# Altium schematic symbol library FPC.SchLib: 103 symbols
Pins are listed as number, name and electrical type; pins without a type are passive.

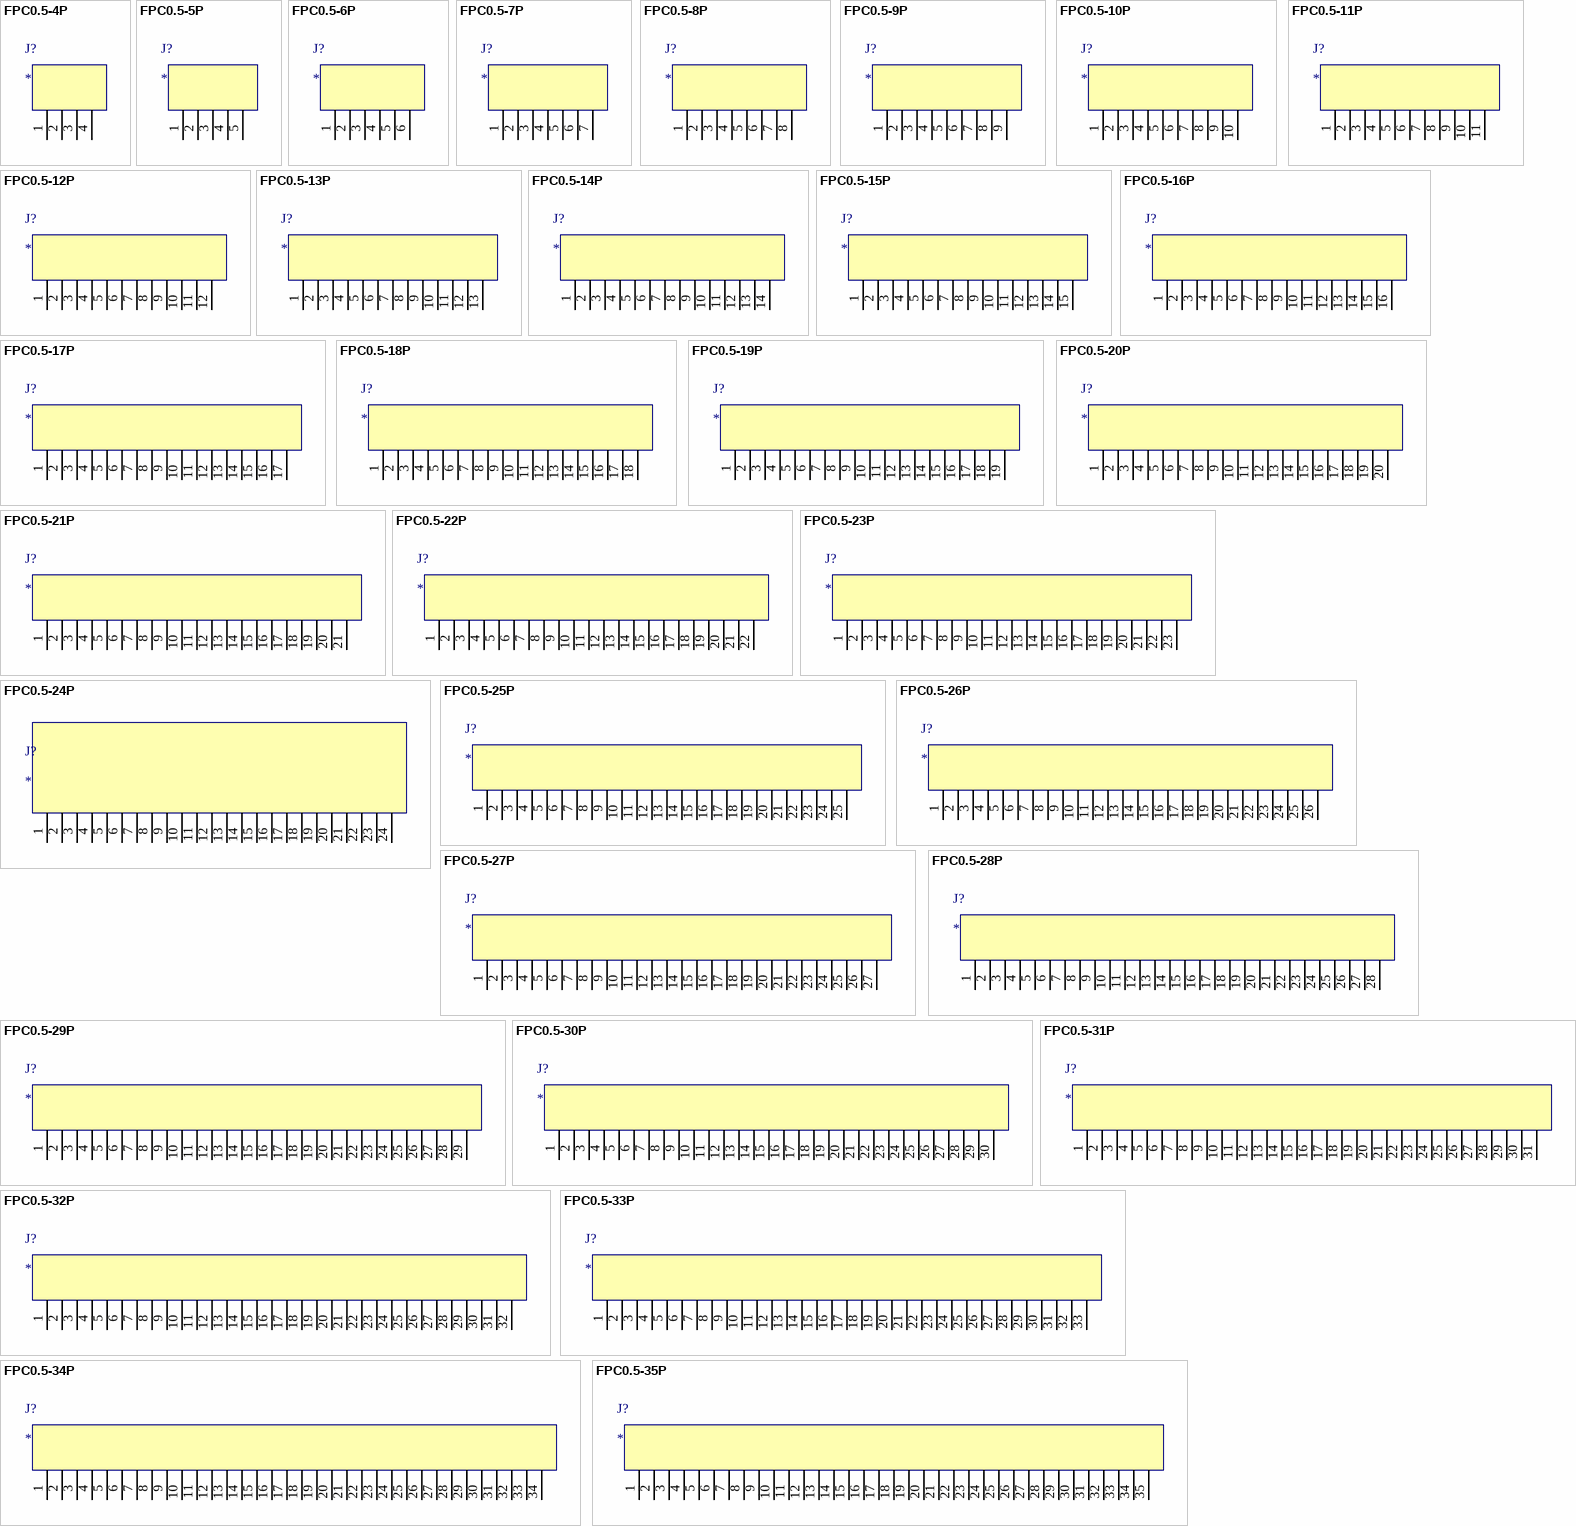
[diagram p0: symbols FPC0.5-4P to FPC0.5-35P]

## FPC0.5-4P
designator J?
贴片
footprint FPC0.5-4P
pins: 1, 2, 3, 4

## FPC0.5-5P
designator J?
贴片
footprint FPC0.5-5P
pins: 1, 2, 3, 4, 5

## FPC0.5-6P
designator J?
贴片
footprint FPC0.5-6P
pins: 1, 2, 3, 4, 5, 6

## FPC0.5-7P
designator J?
贴片
footprint FPC0.5-7P
pins: 1, 2, 3, 4, 5, 6, 7

## FPC0.5-8P
designator J?
贴片
footprint FPC0.5-8P
pins: 1, 2, 3, 4, 5, 6, 7, 8

## FPC0.5-9P
designator J?
贴片
footprint FPC0.5-9P
pins: 1, 2, 3, 4, 5, 6, 7, 8, 9

## FPC0.5-10P
designator J?
贴片
footprint FPC0.5-10P
pins: 1, 2, 3, 4, 5, 6, 7, 8, 9, 10

## FPC0.5-11P
designator J?
贴片
footprint FPC0.5-11p
pins: 1, 2, 3, 4, 5, 6, 7, 8, 9, 10, 11

## FPC0.5-12P
designator J?
贴片
footprint FPC0.5-12P
pins: 1, 2, 3, 4, 5, 6, 7, 8, 9, 10, 11, 12

## FPC0.5-13P
designator J?
贴片
footprint FPC0.5-13P
pins: 1, 2, 3, 4, 5, 6, 7, 8, 9, 10, 11, 12, 13

## FPC0.5-14P
designator J?
贴片
footprint FPC0.5-14P
pins: 1, 2, 3, 4, 5, 6, 7, 8, 9, 10, 11, 12, 13, 14

## FPC0.5-15P
designator J?
贴片
footprint FPC0.5-15P
pins: 1, 2, 3, 4, 5, 6, 7, 8, 9, 10, 11, 12, 13, 14, 15

## FPC0.5-16P
designator J?
贴片
footprint FPC0.5-16P
pins: 1, 2, 3, 4, 5, 6, 7, 8, 9, 10, 11, 12, 13, 14, 15, 16

## FPC0.5-17P
designator J?
贴片
footprint FPC0.5-17P
pins: 1, 2, 3, 4, 5, 6, 7, 8, 9, 10, 11, 12, 13, 14, 15, 16, 17

## FPC0.5-18P
designator J?
贴片
footprint FPC0.5-18P
pins: 1, 2, 3, 4, 5, 6, 7, 8, 9, 10, 11, 12, 13, 14, 15, 16, 17, 18

## FPC0.5-19P
designator J?
贴片
footprint FPC0.5-19P
pins: 1, 2, 3, 4, 5, 6, 7, 8, 9, 10, 11, 12, 13, 14, 15, 16, 17, 18, 19

## FPC0.5-20P
designator J?
贴片
footprint FPC0.5-20P
pins: 1, 2, 3, 4, 5, 6, 7, 8, 9, 10, 11, 12, 13, 14, 15, 16, 17, 18, 19, 20

## FPC0.5-21P
designator J?
贴片
footprint FPC0.5-21P
pins: 1, 2, 3, 4, 5, 6, 7, 8, 9, 10, 11, 12, 13, 14, 15, 16, 17, 18, 19, 20, 21

## FPC0.5-22P
designator J?
贴片
footprint FPC0.5-22P
pins: 1, 2, 3, 4, 5, 6, 7, 8, 9, 10, 11, 12, 13, 14, 15, 16, 17, 18, 19, 20, 21, 22

## FPC0.5-23P
designator J?
贴片
footprint FPC0.5-23P
pins: 1, 2, 3, 4, 5, 6, 7, 8, 9, 10, 11, 12, 13, 14, 15, 16, 17, 18, 19, 20, 21, 22, 23

## FPC0.5-24P
designator J?
贴片
footprint FPC0.5-24P
pins: 1, 2, 3, 4, 5, 6, 7, 8, 9, 10, 11, 12, 13, 14, 15, 16, 17, 18, 19, 20, 21, 22, 23, 24

## FPC0.5-25P
designator J?
贴片
footprint FPC0.5-25P
pins: 1, 2, 3, 4, 5, 6, 7, 8, 9, 10, 11, 12, 13, 14, 15, 16, 17, 18, 19, 20, 21, 22, 23, 24, 25

## FPC0.5-26P
designator J?
贴片
footprint FPC0.5-26P
pins: 1, 2, 3, 4, 5, 6, 7, 8, 9, 10, 11, 12, 13, 14, 15, 16, 17, 18, 19, 20, 21, 22, 23, 24, 25, 26

## FPC0.5-27P
designator J?
贴片
footprint FPC0.5-27P
pins: 1, 2, 3, 4, 5, 6, 7, 8, 9, 10, 11, 12, 13, 14, 15, 16, 17, 18, 19, 20, 21, 22, 23, 24, 25, 26, 27

## FPC0.5-28P
designator J?
贴片
footprint FPC0.5-28P
pins: 1, 2, 3, 4, 5, 6, 7, 8, 9, 10, 11, 12, 13, 14, 15, 16, 17, 18, 19, 20, 21, 22, 23, 24, 25, 26, 27, 28

## FPC0.5-29P
designator J?
贴片
footprint FPC0.5-29P
pins: 1, 2, 3, 4, 5, 6, 7, 8, 9, 10, 11, 12, 13, 14, 15, 16, 17, 18, 19, 20, 21, 22, 23, 24, 25, 26, 27, 28, 29

## FPC0.5-30P
designator J?
贴片
footprint FPC0.5-30P
pins: 1, 2, 3, 4, 5, 6, 7, 8, 9, 10, 11, 12, 13, 14, 15, 16, 17, 18, 19, 20, 21, 22, 23, 24, 25, 26, 27, 28, 29, 30

## FPC0.5-31P
designator J?
贴片
footprint FPC0.5-31P
pins: 1, 2, 3, 4, 5, 6, 7, 8, 9, 10, 11, 12, 13, 14, 15, 16, 17, 18, 19, 20, 21, 22, 23, 24, 25, 26, 27, 28, 29, 30, 31

## FPC0.5-32P
designator J?
贴片
footprint FPC0.5-32P
pins: 1, 2, 3, 4, 5, 6, 7, 8, 9, 10, 11, 12, 13, 14, 15, 16, 17, 18, 19, 20, 21, 22, 23, 24, 25, 26, 27, 28, 29, 30, 31, 32

## FPC0.5-33P
designator J?
贴片
footprint FPC0.5-33P
pins: 1, 2, 3, 4, 5, 6, 7, 8, 9, 10, 11, 12, 13, 14, 15, 16, 17, 18, 19, 20, 21, 22, 23, 24, 25, 26, 27, 28, 29, 30, 31, 32, 33

## FPC0.5-34P
designator J?
贴片
footprint FPC0.5-34P
pins: 1, 2, 3, 4, 5, 6, 7, 8, 9, 10, 11, 12, 13, 14, 15, 16, 17, 18, 19, 20, 21, 22, 23, 24, 25, 26, 27, 28, 29, 30, 31, 32, 33, 34

## FPC0.5-35P
designator J?
贴片
footprint FPC0.5-35P
pins: 1, 2, 3, 4, 5, 6, 7, 8, 9, 10, 11, 12, 13, 14, 15, 16, 17, 18, 19, 20, 21, 22, 23, 24, 25, 26, 27, 28, 29, 30, 31, 32, 33, 34, 35

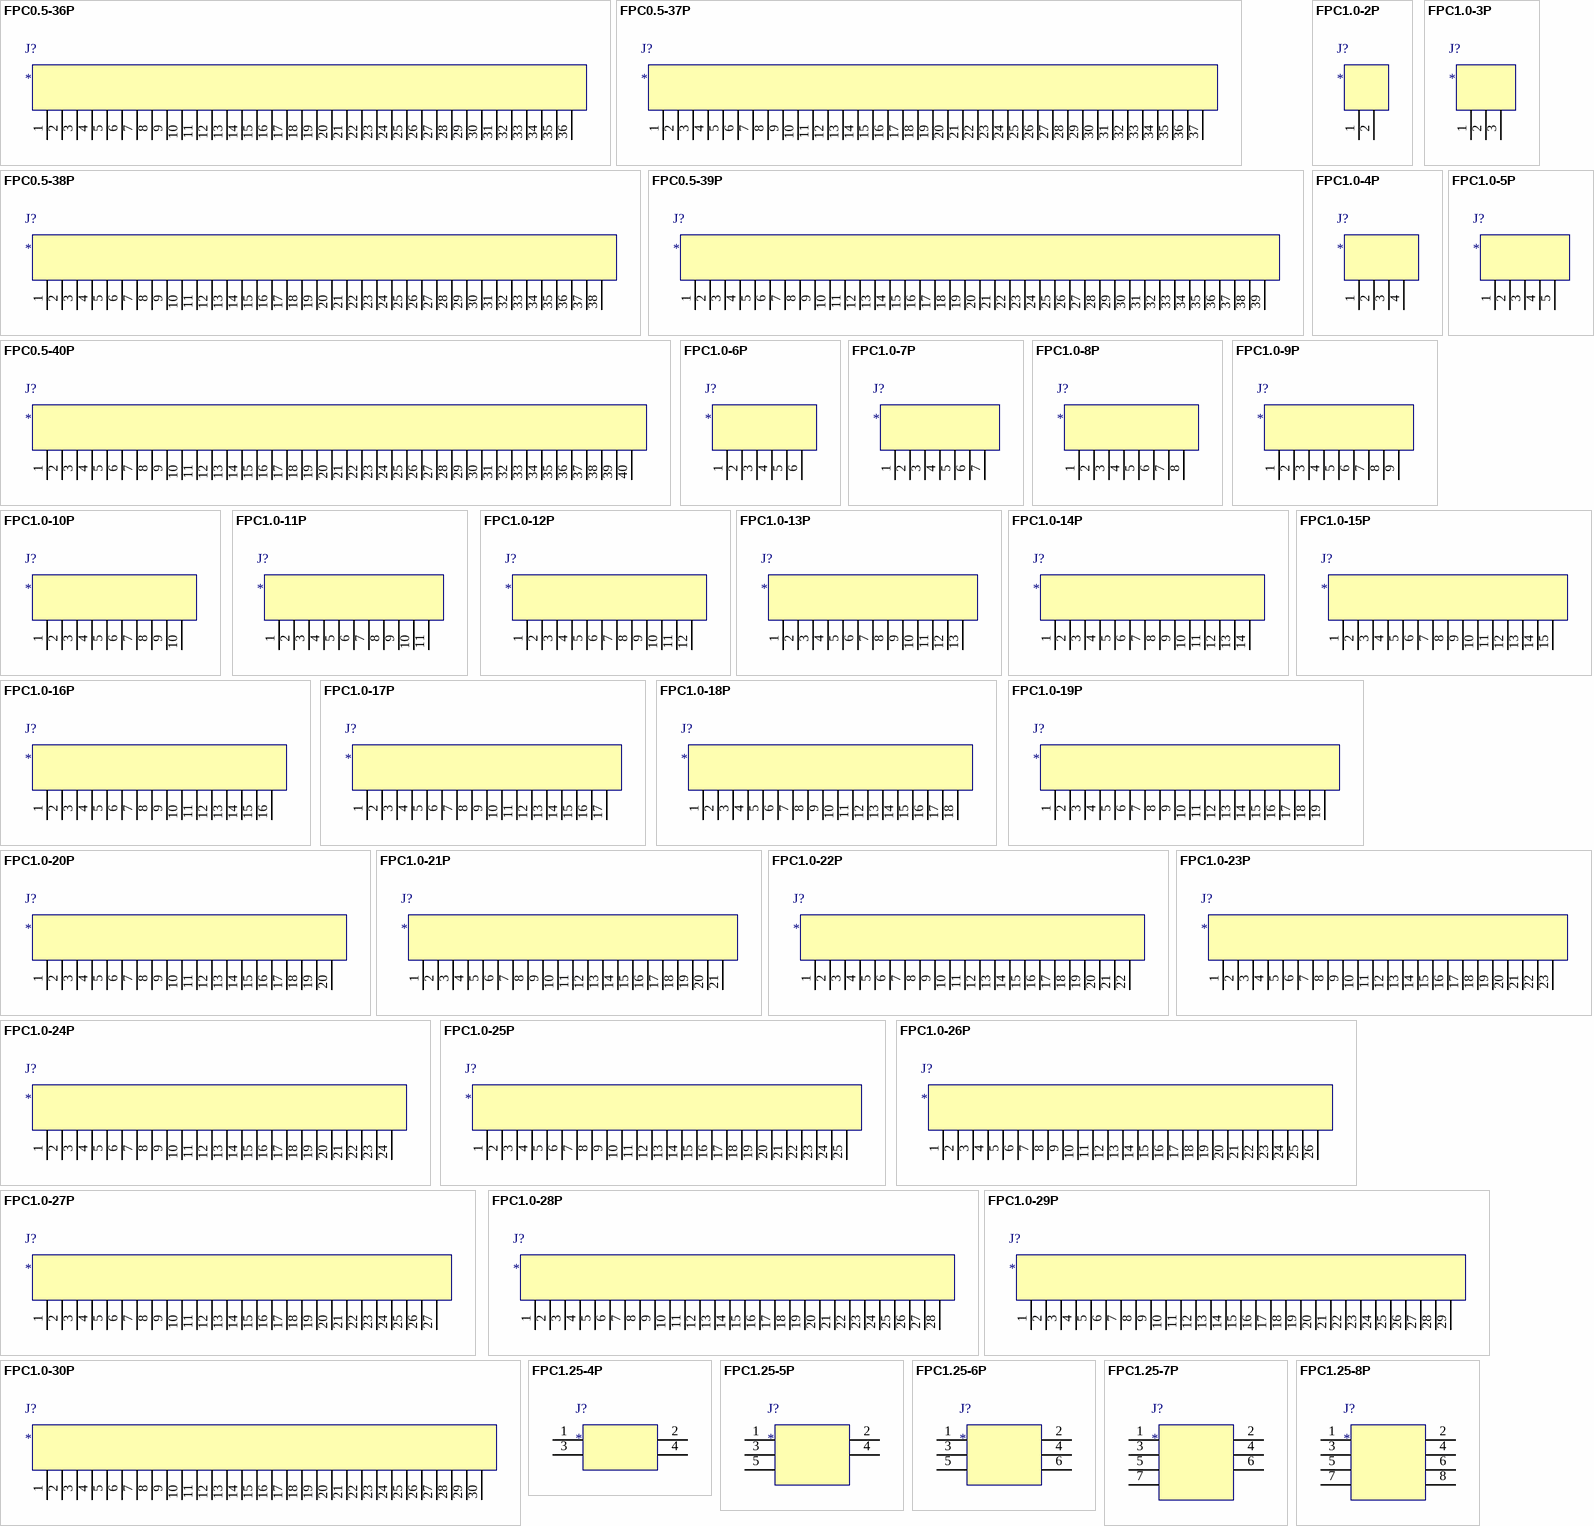
[diagram p1: symbols FPC0.5-36P to FPC1.25-8P]

## FPC0.5-36P
designator J?
贴片
footprint FPC0.5-36P
pins: 1, 2, 3, 4, 5, 6, 7, 8, 9, 10, 11, 12, 13, 14, 15, 16, 17, 18, 19, 20, 21, 22, 23, 24, 25, 26, 27, 28, 29, 30, 31, 32, 33, 34, 35, 36

## FPC0.5-37P
designator J?
贴片
footprint FPC0.5-37P
pins: 1, 2, 3, 4, 5, 6, 7, 8, 9, 10, 11, 12, 13, 14, 15, 16, 17, 18, 19, 20, 21, 22, 23, 24, 25, 26, 27, 28, 29, 30, 31, 32, 33, 34, 35, 36, 37

## FPC0.5-38P
designator J?
贴片
footprint FPC0.5-38P
pins: 1, 2, 3, 4, 5, 6, 7, 8, 9, 10, 11, 12, 13, 14, 15, 16, 17, 18, 19, 20, 21, 22, 23, 24, 25, 26, 27, 28, 29, 30, 31, 32, 33, 34, 35, 36, 37, 38

## FPC0.5-39P
designator J?
贴片
footprint FPC0.5-39P
pins: 1, 2, 3, 4, 5, 6, 7, 8, 9, 10, 11, 12, 13, 14, 15, 16, 17, 18, 19, 20, 21, 22, 23, 24, 25, 26, 27, 28, 29, 30, 31, 32, 33, 34, 35, 36, 37, 38, 39

## FPC0.5-40P
designator J?
贴片
footprint FPC0.5-40P
footprint FPC0.5-40P-翻盖式子-上接
footprint FPC0.5-40P-反向
footprint FPC0.5-40P-上下接
pins: 1, 2, 3, 4, 5, 6, 7, 8, 9, 10, 11, 12, 13, 14, 15, 16, 17, 18, 19, 20, 21, 22, 23, 24, 25, 26, 27, 28, 29, 30, 31, 32, 33, 34, 35, 36, 37, 38, 39, 40

## FPC1.0-2P
designator J?
贴片
footprint FPC1.0-2P
pins: 1, 2

## FPC1.0-3P
designator J?
贴片
footprint FPC1.0-3P
pins: 1, 2, 3

## FPC1.0-4P
designator J?
贴片
footprint FPC1.0-4P
pins: 1, 2, 3, 4

## FPC1.0-5P
designator J?
贴片
footprint FPC1.0-5P
pins: 1, 2, 3, 4, 5

## FPC1.0-6P
designator J?
贴片
footprint FPC1.0-6P
pins: 1, 2, 3, 4, 5, 6

## FPC1.0-7P
designator J?
贴片
footprint FPC1.0-7P
pins: 1, 2, 3, 4, 5, 6, 7

## FPC1.0-8P
designator J?
贴片
footprint FPC1.0-8P
pins: 1, 2, 3, 4, 5, 6, 7, 8

## FPC1.0-9P
designator J?
贴片
footprint FPC1.0-9P
pins: 1, 2, 3, 4, 5, 6, 7, 8, 9

## FPC1.0-10P
designator J?
贴片
footprint FPC1.0-10P
pins: 1, 2, 3, 4, 5, 6, 7, 8, 9, 10

## FPC1.0-11P
designator J?
贴片
footprint FPC1.0-11P
pins: 1, 2, 3, 4, 5, 6, 7, 8, 9, 10, 11

## FPC1.0-12P
designator J?
贴片
footprint FPC1.0-12P
pins: 1, 2, 3, 4, 5, 6, 7, 8, 9, 10, 11, 12

## FPC1.0-13P
designator J?
贴片
footprint FPC1.0-13P
pins: 1, 2, 3, 4, 5, 6, 7, 8, 9, 10, 11, 12, 13

## FPC1.0-14P
designator J?
贴片
footprint FPC1.0-14P
pins: 1, 2, 3, 4, 5, 6, 7, 8, 9, 10, 11, 12, 13, 14

## FPC1.0-15P
designator J?
贴片
footprint FPC1.0-15P
pins: 1, 2, 3, 4, 5, 6, 7, 8, 9, 10, 11, 12, 13, 14, 15

## FPC1.0-16P
designator J?
贴片
footprint FPC1.0-16P
pins: 1, 2, 3, 4, 5, 6, 7, 8, 9, 10, 11, 12, 13, 14, 15, 16

## FPC1.0-17P
designator J?
贴片
footprint FPC1.0-17P
pins: 1, 2, 3, 4, 5, 6, 7, 8, 9, 10, 11, 12, 13, 14, 15, 16, 17

## FPC1.0-18P
designator J?
贴片
footprint FPC1.0-18P
pins: 1, 2, 3, 4, 5, 6, 7, 8, 9, 10, 11, 12, 13, 14, 15, 16, 17, 18

## FPC1.0-19P
designator J?
贴片
footprint FPC1.0-19P
pins: 1, 2, 3, 4, 5, 6, 7, 8, 9, 10, 11, 12, 13, 14, 15, 16, 17, 18, 19

## FPC1.0-20P
designator J?
贴片
footprint FPC1.0-20P
pins: 1, 2, 3, 4, 5, 6, 7, 8, 9, 10, 11, 12, 13, 14, 15, 16, 17, 18, 19, 20

## FPC1.0-21P
designator J?
贴片
footprint FPC1.0-21P
pins: 1, 2, 3, 4, 5, 6, 7, 8, 9, 10, 11, 12, 13, 14, 15, 16, 17, 18, 19, 20, 21

## FPC1.0-22P
designator J?
贴片
footprint FPC1.0-22P
pins: 1, 2, 3, 4, 5, 6, 7, 8, 9, 10, 11, 12, 13, 14, 15, 16, 17, 18, 19, 20, 21, 22

## FPC1.0-23P
designator J?
贴片
footprint FPC1.0-23P
pins: 1, 2, 3, 4, 5, 6, 7, 8, 9, 10, 11, 12, 13, 14, 15, 16, 17, 18, 19, 20, 21, 22, 23

## FPC1.0-24P
designator J?
贴片
footprint FPC1.0-24P
pins: 1, 2, 3, 4, 5, 6, 7, 8, 9, 10, 11, 12, 13, 14, 15, 16, 17, 18, 19, 20, 21, 22, 23, 24

## FPC1.0-25P
designator J?
贴片
footprint FPC1.0-25P
pins: 1, 2, 3, 4, 5, 6, 7, 8, 9, 10, 11, 12, 13, 14, 15, 16, 17, 18, 19, 20, 21, 22, 23, 24, 25

## FPC1.0-26P
designator J?
贴片
footprint FPC1.0-26P
pins: 1, 2, 3, 4, 5, 6, 7, 8, 9, 10, 11, 12, 13, 14, 15, 16, 17, 18, 19, 20, 21, 22, 23, 24, 25, 26

## FPC1.0-27P
designator J?
贴片
footprint FPC1.0-27P
pins: 1, 2, 3, 4, 5, 6, 7, 8, 9, 10, 11, 12, 13, 14, 15, 16, 17, 18, 19, 20, 21, 22, 23, 24, 25, 26, 27

## FPC1.0-28P
designator J?
贴片
footprint FPC1.0-28P
pins: 1, 2, 3, 4, 5, 6, 7, 8, 9, 10, 11, 12, 13, 14, 15, 16, 17, 18, 19, 20, 21, 22, 23, 24, 25, 26, 27, 28

## FPC1.0-29P
designator J?
贴片
footprint FPC1.0-29P
pins: 1, 2, 3, 4, 5, 6, 7, 8, 9, 10, 11, 12, 13, 14, 15, 16, 17, 18, 19, 20, 21, 22, 23, 24, 25, 26, 27, 28, 29

## FPC1.0-30P
designator J?
贴片
footprint FPC1.0-30P
pins: 1, 2, 3, 4, 5, 6, 7, 8, 9, 10, 11, 12, 13, 14, 15, 16, 17, 18, 19, 20, 21, 22, 23, 24, 25, 26, 27, 28, 29, 30

## FPC1.25-4P
designator J?
错位直插
footprint FPC1.25A-4P
pins: 1, 2, 3, 4

## FPC1.25-5P
designator J?
错位直插
footprint FPC1.25A-5P
pins: 1, 2, 3, 4, 5

## FPC1.25-6P
designator J?
错位直插
footprint FPC1.25A-6P
pins: 1, 2, 3, 4, 5, 6

## FPC1.25-7P
designator J?
错位直插
footprint FPC1.25A-7P
pins: 1, 2, 3, 4, 5, 6, 7

## FPC1.25-8P
designator J?
错位直插
footprint FPC1.25A-8P
pins: 1, 2, 3, 4, 5, 6, 7, 8

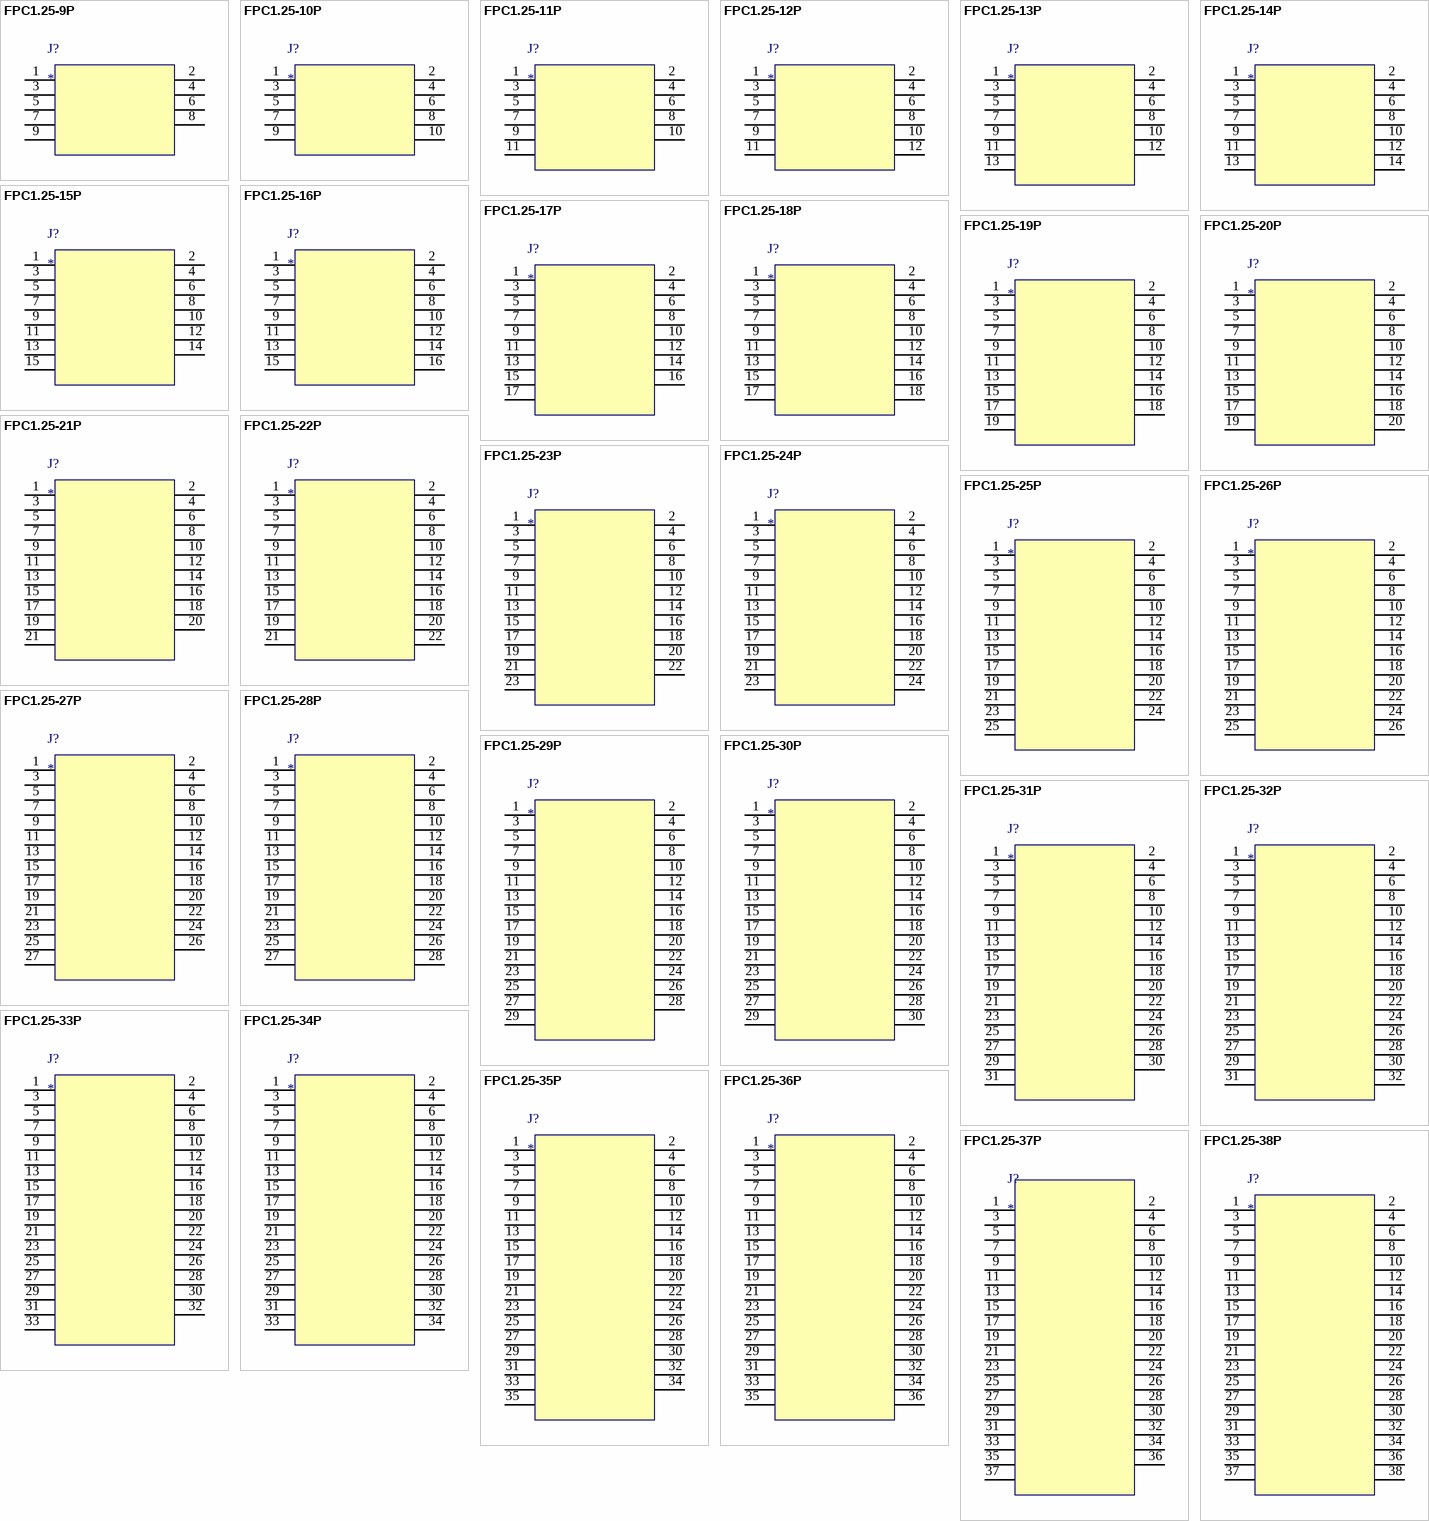
[diagram p2: symbols FPC1.25-9P to FPC1.25-38P]

## FPC1.25-9P
designator J?
错位直插
footprint FPC1.25A-9P
pins: 1, 2, 3, 4, 5, 6, 7, 8, 9

## FPC1.25-10P
designator J?
错位直插
footprint FPC1.25A-10P
pins: 1, 2, 3, 4, 5, 6, 7, 8, 9, 10

## FPC1.25-11P
designator J?
错位直插
footprint FPC1.25A-11P
pins: 1, 2, 3, 4, 5, 6, 7, 8, 9, 10, 11

## FPC1.25-12P
designator J?
错位直插
footprint FPC1.25A-12P
pins: 1, 2, 3, 4, 5, 6, 7, 8, 9, 10, 11, 12

## FPC1.25-13P
designator J?
错位直插
footprint FPC1.25A-13P
pins: 1, 2, 3, 4, 5, 6, 7, 8, 9, 10, 11, 12, 13

## FPC1.25-14P
designator J?
错位直插
footprint FPC1.25A-14P
pins: 1, 2, 3, 4, 5, 6, 7, 8, 9, 10, 11, 12, 13, 14

## FPC1.25-15P
designator J?
错位直插
footprint FPC1.25A-15P
pins: 1, 2, 3, 4, 5, 6, 7, 8, 9, 10, 11, 12, 13, 14, 15

## FPC1.25-16P
designator J?
错位直插
footprint FPC1.25A-16P
pins: 1, 2, 3, 4, 5, 6, 7, 8, 9, 10, 11, 12, 13, 14, 15, 16

## FPC1.25-17P
designator J?
错位直插
footprint FPC1.25A-17P
pins: 1, 2, 3, 4, 5, 6, 7, 8, 9, 10, 11, 12, 13, 14, 15, 16, 17

## FPC1.25-18P
designator J?
错位直插
footprint FPC1.25A-18P
pins: 1, 2, 3, 4, 5, 6, 7, 8, 9, 10, 11, 12, 13, 14, 15, 16, 17, 18

## FPC1.25-19P
designator J?
错位直插
footprint FPC1.25A-19P
pins: 1, 2, 3, 4, 5, 6, 7, 8, 9, 10, 11, 12, 13, 14, 15, 16, 17, 18, 19

## FPC1.25-20P
designator J?
错位直插
footprint FPC1.25A-20P
pins: 1, 2, 3, 4, 5, 6, 7, 8, 9, 10, 11, 12, 13, 14, 15, 16, 17, 18, 19, 20

## FPC1.25-21P
designator J?
错位直插
footprint FPC1.25A-21P
pins: 1, 2, 3, 4, 5, 6, 7, 8, 9, 10, 11, 12, 13, 14, 15, 16, 17, 18, 19, 20, 21

## FPC1.25-22P
designator J?
错位直插
footprint FPC1.25A-22P
pins: 1, 2, 3, 4, 5, 6, 7, 8, 9, 10, 11, 12, 13, 14, 15, 16, 17, 18, 19, 20, 21, 22

## FPC1.25-23P
designator J?
错位直插
footprint FPC1.25A-23P
pins: 1, 2, 3, 4, 5, 6, 7, 8, 9, 10, 11, 12, 13, 14, 15, 16, 17, 18, 19, 20, 21, 22, 23

## FPC1.25-24P
designator J?
错位直插
footprint FPC1.25A-24P
pins: 1, 2, 3, 4, 5, 6, 7, 8, 9, 10, 11, 12, 13, 14, 15, 16, 17, 18, 19, 20, 21, 22, 23, 24

## FPC1.25-25P
designator J?
错位直插
footprint FPC1.25A-25P
pins: 1, 2, 3, 4, 5, 6, 7, 8, 9, 10, 11, 12, 13, 14, 15, 16, 17, 18, 19, 20, 21, 22, 23, 24, 25

## FPC1.25-26P
designator J?
错位直插
footprint FPC1.25A-26P
pins: 1, 2, 3, 4, 5, 6, 7, 8, 9, 10, 11, 12, 13, 14, 15, 16, 17, 18, 19, 20, 21, 22, 23, 24, 25, 26

## FPC1.25-27P
designator J?
错位直插
footprint FPC1.25A-27P
pins: 1, 2, 3, 4, 5, 6, 7, 8, 9, 10, 11, 12, 13, 14, 15, 16, 17, 18, 19, 20, 21, 22, 23, 24, 25, 26, 27

## FPC1.25-28P
designator J?
错位直插
footprint FPC1.25A-28P
pins: 1, 2, 3, 4, 5, 6, 7, 8, 9, 10, 11, 12, 13, 14, 15, 16, 17, 18, 19, 20, 21, 22, 23, 24, 25, 26, 27, 28

## FPC1.25-29P
designator J?
错位直插
footprint FPC1.25A-29P
pins: 1, 2, 3, 4, 5, 6, 7, 8, 9, 10, 11, 12, 13, 14, 15, 16, 17, 18, 19, 20, 21, 22, 23, 24, 25, 26, 27, 28, 29

## FPC1.25-30P
designator J?
错位直插
footprint FPC1.25A-30P
pins: 1, 2, 3, 4, 5, 6, 7, 8, 9, 10, 11, 12, 13, 14, 15, 16, 17, 18, 19, 20, 21, 22, 23, 24, 25, 26, 27, 28, 29, 30

## FPC1.25-31P
designator J?
错位直插
footprint FPC1.25A-31P
pins: 1, 2, 3, 4, 5, 6, 7, 8, 9, 10, 11, 12, 13, 14, 15, 16, 17, 18, 19, 20, 21, 22, 23, 24, 25, 26, 27, 28, 29, 30, 31

## FPC1.25-32P
designator J?
错位直插
footprint FPC1.25A-32P
pins: 1, 2, 3, 4, 5, 6, 7, 8, 9, 10, 11, 12, 13, 14, 15, 16, 17, 18, 19, 20, 21, 22, 23, 24, 25, 26, 27, 28, 29, 30, 31, 32

## FPC1.25-33P
designator J?
错位直插
footprint FPC1.25A-33P
pins: 1, 2, 3, 4, 5, 6, 7, 8, 9, 10, 11, 12, 13, 14, 15, 16, 17, 18, 19, 20, 21, 22, 23, 24, 25, 26, 27, 28, 29, 30, 31, 32, 33

## FPC1.25-34P
designator J?
错位直插
footprint FPC1.25A-34P
pins: 1, 2, 3, 4, 5, 6, 7, 8, 9, 10, 11, 12, 13, 14, 15, 16, 17, 18, 19, 20, 21, 22, 23, 24, 25, 26, 27, 28, 29, 30, 31, 32, 33, 34

## FPC1.25-35P
designator J?
错位直插
footprint FPC1.25A-35P
pins: 1, 2, 3, 4, 5, 6, 7, 8, 9, 10, 11, 12, 13, 14, 15, 16, 17, 18, 19, 20, 21, 22, 23, 24, 25, 26, 27, 28, 29, 30, 31, 32, 33, 34, 35

## FPC1.25-36P
designator J?
错位直插
footprint FPC1.25A-36P
pins: 1, 2, 3, 4, 5, 6, 7, 8, 9, 10, 11, 12, 13, 14, 15, 16, 17, 18, 19, 20, 21, 22, 23, 24, 25, 26, 27, 28, 29, 30, 31, 32, 33, 34, 35, 36

## FPC1.25-37P
designator J?
错位直插
footprint FPC1.25A-37P
pins: 1, 2, 3, 4, 5, 6, 7, 8, 9, 10, 11, 12, 13, 14, 15, 16, 17, 18, 19, 20, 21, 22, 23, 24, 25, 26, 27, 28, 29, 30, 31, 32, 33, 34, 35, 36, 37

## FPC1.25-38P
designator J?
错位直插
footprint FPC1.25A-38P
pins: 1, 2, 3, 4, 5, 6, 7, 8, 9, 10, 11, 12, 13, 14, 15, 16, 17, 18, 19, 20, 21, 22, 23, 24, 25, 26, 27, 28, 29, 30, 31, 32, 33, 34, 35, 36, 37, 38

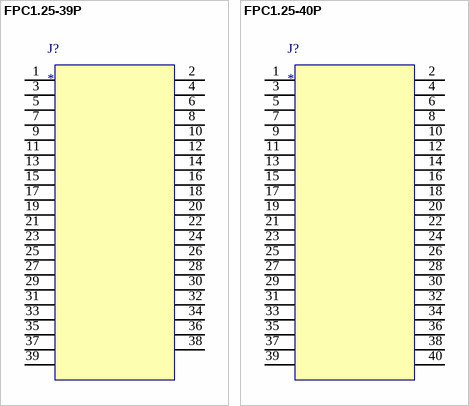
[diagram p3: symbols FPC1.25-39P to FPC1.25-40P]

## FPC1.25-39P
designator J?
错位直插
footprint FPC1.25A-39P
pins: 1, 2, 3, 4, 5, 6, 7, 8, 9, 10, 11, 12, 13, 14, 15, 16, 17, 18, 19, 20, 21, 22, 23, 24, 25, 26, 27, 28, 29, 30, 31, 32, 33, 34, 35, 36, 37, 38, 39

## FPC1.25-40P
designator J?
错位直插
footprint FPC1.25A-40P
pins: 1, 2, 3, 4, 5, 6, 7, 8, 9, 10, 11, 12, 13, 14, 15, 16, 17, 18, 19, 20, 21, 22, 23, 24, 25, 26, 27, 28, 29, 30, 31, 32, 33, 34, 35, 36, 37, 38, 39, 40